# EAGLE library part SI7021_TEMP_HUMIDTY (library EFR32BG13)
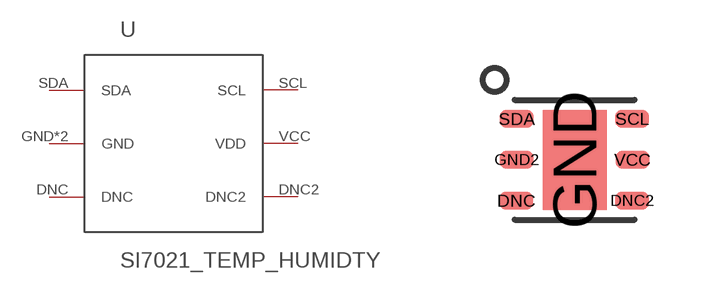
[diagram p0: symbol with the pads of DFN-6; footprint DFN-6]

Designator prefix U

## SI7021_TEMP_HUMIDTY  [DFN-6]
DNC  DNC
DNC2  DNC2
GND  GND
GND2  GND
SCL  SCL
SDA  SDA
VCC  VDD

## Footprint DFN-6 (pad centres in mm)
smd 0.85 x 0.45: DNC -1.462,-1.023; DNC2 1.438,-1.023; GND2 -1.45,0; SCL 1.442,1.027; SDA -1.45,1.024; VCC 1.444,0.003
smd 1.6 x 2.5: GND 0,0